# Altium schematic symbol library DIODE SCHOTTKY 80V 5A.SchLib: 1 symbol
Pins are listed as number, name and electrical type; pins without a type are passive.

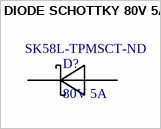
[diagram p0: symbol DIODE SCHOTTKY 80V 5A]

## DIODE SCHOTTKY 80V 5A
designator D?, comment 80V 5A  Supplier Part Number 1: SK58L-TPMSCT-ND
Diode Schottky 80V 5A Surface Mount SMA; Voltage - Forward (Vf) (Max) @ If: 850 mV @ 5 A; Voltage - DC Reverse (Vr) (Max): 80V; Package: DO-214AB; Current - Average Rectified (Io): 5A; Supplier 1: Digi-Key
footprint DIOSC6959X240
pins: A, C K